# EAGLE library part JLINK_6PIN_TAG-CON (library headers)
This is a 6-pin Tag Connect header with the J-Link.
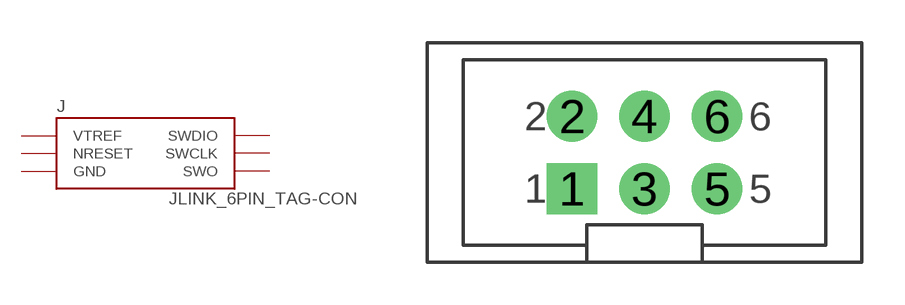
[diagram p10: symbol with the pads of 2X3_MALE_SHROUDED_0.100; footprint 2X3_MALE_SHROUDED_0.100]

Designator prefix J

## JLINK_6PIN_TAG-CON (DIGIKEY: 3M15451-ND)  [2X3_MALE_SHROUDED_0.100]
1  VTREF
2  SWDIO
3  NRESET
4  SWCLK
5  GND
6  SWO

## Footprint 2X3_MALE_SHROUDED_0.100 (pad centres in mm)
2x3 Shrouded 0.100"
drill 1.016 pad 1.778 square: 1 -2.54,-1.27
drill 1.016 pad 1.778: 2 -2.54,1.27; 3 0,-1.27; 4 0,1.27; 5 2.54,-1.27; 6 2.54,1.27